# Altium schematic symbol library Libaray.SCHLIB: 6 symbols
Pins are listed as number, name and electrical type; pins without a type are passive.

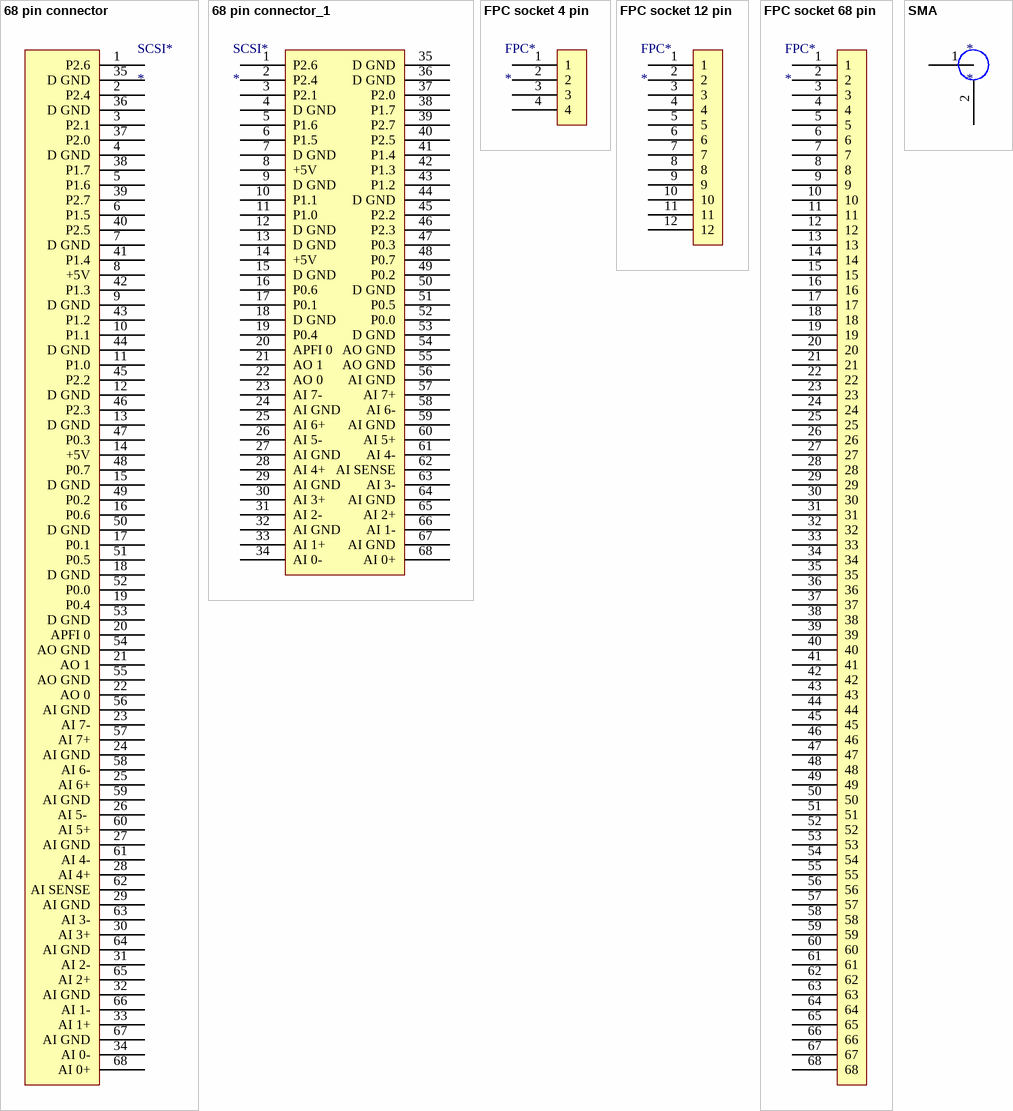
[diagram p0: symbols 68 pin connector to SMA]

## 68 pin connector
designator SCSI*
footprint scsi 68
pins: 1 P2.6, 2 P2.4, 3 P2.1, 4 D GND, 5 P1.6, 6 P1.5, 7 D GND, 8 +5V, 9 D GND, 10 P1.1, 11 P1.0, 12 D GND, 13 D GND, 14 +5V, 15 D GND, 16 P0.6, 17 P0.1, 18 D GND, 19 P0.4, 20 APFI 0, 21 AO 1, 22 AO 0, 23 AI 7-, 24 AI GND, 25 AI 6+, 26 AI 5- , 27 AI GND, 28 AI 4+, 29 AI GND, 30 AI 3+, 31 AI 2-, 32 AI GND, 33 AI 1+, 34 AI 0-, 35 D GND, 36 D GND, 37 P2.0, 38 P1.7, 39 P2.7, 40 P2.5, 41 P1.4, 42 P1.3, 43 P1.2, 44 D GND, 45 P2.2, 46 P2.3, 47 P0.3, 48 P0.7, 49 P0.2, 50 D GND, 51 P0.5, 52 P0.0, 53 D GND, 54 AO GND, 55 AO GND, 56 AI GND, 57 AI 7+, 58 AI 6-, 59 AI GND, 60 AI 5+, 61 AI 4-, 62 AI SENSE, 63 AI 3-, 64 AI GND, 65 AI 2+, 66 AI 1-, 67 AI GND, 68 AI 0+

## 68 pin connector_1
designator SCSI*
footprint scsi 68
pins: 1 P2.6, 2 P2.4, 3 P2.1, 4 D GND, 5 P1.6, 6 P1.5, 7 D GND, 8 +5V, 9 D GND, 10 P1.1, 11 P1.0, 12 D GND, 13 D GND, 14 +5V, 15 D GND, 16 P0.6, 17 P0.1, 18 D GND, 19 P0.4, 20 APFI 0, 21 AO 1, 22 AO 0, 23 AI 7-, 24 AI GND, 25 AI 6+, 26 AI 5- , 27 AI GND, 28 AI 4+, 29 AI GND, 30 AI 3+, 31 AI 2-, 32 AI GND, 33 AI 1+, 34 AI 0-, 35 D GND, 36 D GND, 37 P2.0, 38 P1.7, 39 P2.7, 40 P2.5, 41 P1.4, 42 P1.3, 43 P1.2, 44 D GND, 45 P2.2, 46 P2.3, 47 P0.3, 48 P0.7, 49 P0.2, 50 D GND, 51 P0.5, 52 P0.0, 53 D GND, 54 AO GND, 55 AO GND, 56 AI GND, 57 AI 7+, 58 AI 6-, 59 AI GND, 60 AI 5+, 61 AI 4-, 62 AI SENSE, 63 AI 3-, 64 AI GND, 65 AI 2+, 66 AI 1-, 67 AI GND, 68 AI 0+

## FPC socket 4 pin
designator FPC*
footprint FPC 4Pin
pins: 1, 2, 3, 4

## FPC socket 12 pin
designator FPC*
footprint FPC 12pin
pins: 1, 2, 3, 4, 5, 6, 7, 8, 9, 10, 11, 12

## FPC socket 68 pin
designator FPC*
pins: 1, 2, 3, 4, 5, 6, 7, 8, 9, 10, 11, 12, 13, 14, 15, 16, 17, 18, 19, 20, 21, 22, 23, 24, 25, 26, 27, 28, 29, 30, 31, 32, 33, 34, 35, 36, 37, 38, 39, 40, 41, 42, 43, 44, 45, 46, 47, 48, 49, 50, 51, 52, 53, 54, 55, 56, 57, 58, 59, 60, 61, 62, 63, 64, 65, 66, 67, 68

## SMA
designator *
footprint SMA
pins: 1 Core, 2 Ground